# Altium schematic symbol library AD7940BRM.SchLib: 1 symbol
Pins are listed as number, name and electrical type; pins without a type are passive.

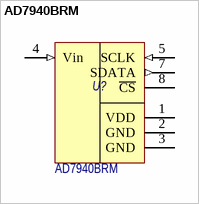
[diagram p0: symbol AD7940BRM]

## AD7940BRM
designator U?
100 kSPS, 14-Bit ADC; Потребление, Вт: 0.003; Назначение: 100 kSPS, 14-Bit ADC; ComponentLink1Description: New link; ComponentLink1URL: https://static.chipdip.ru/lib/039/DOC012039634.pdf; Наименование: AD7940BRM
footprint MSOP-8
pins: 1 VDD (power) "Vdd", 2 GND (power), 3 GND (power), 4 Vin (in) "Input signal", 5 SCLK (in), 7 SDATA (out), 8 ~{CS} (power) "GND"